# Altium footprint library Tiristors_Diodes.PcbLib: 14 footprints
Each footprint in its own frame and in the unit in brackets; x right, y up, seen from the top. Pads: shape width x height; smd on the part's side, far side on the other; paste and mask are expansions set on the pad; w line width, h text height; cw(c..) or ccw(c..) is an arc to the next point about the centre after c.
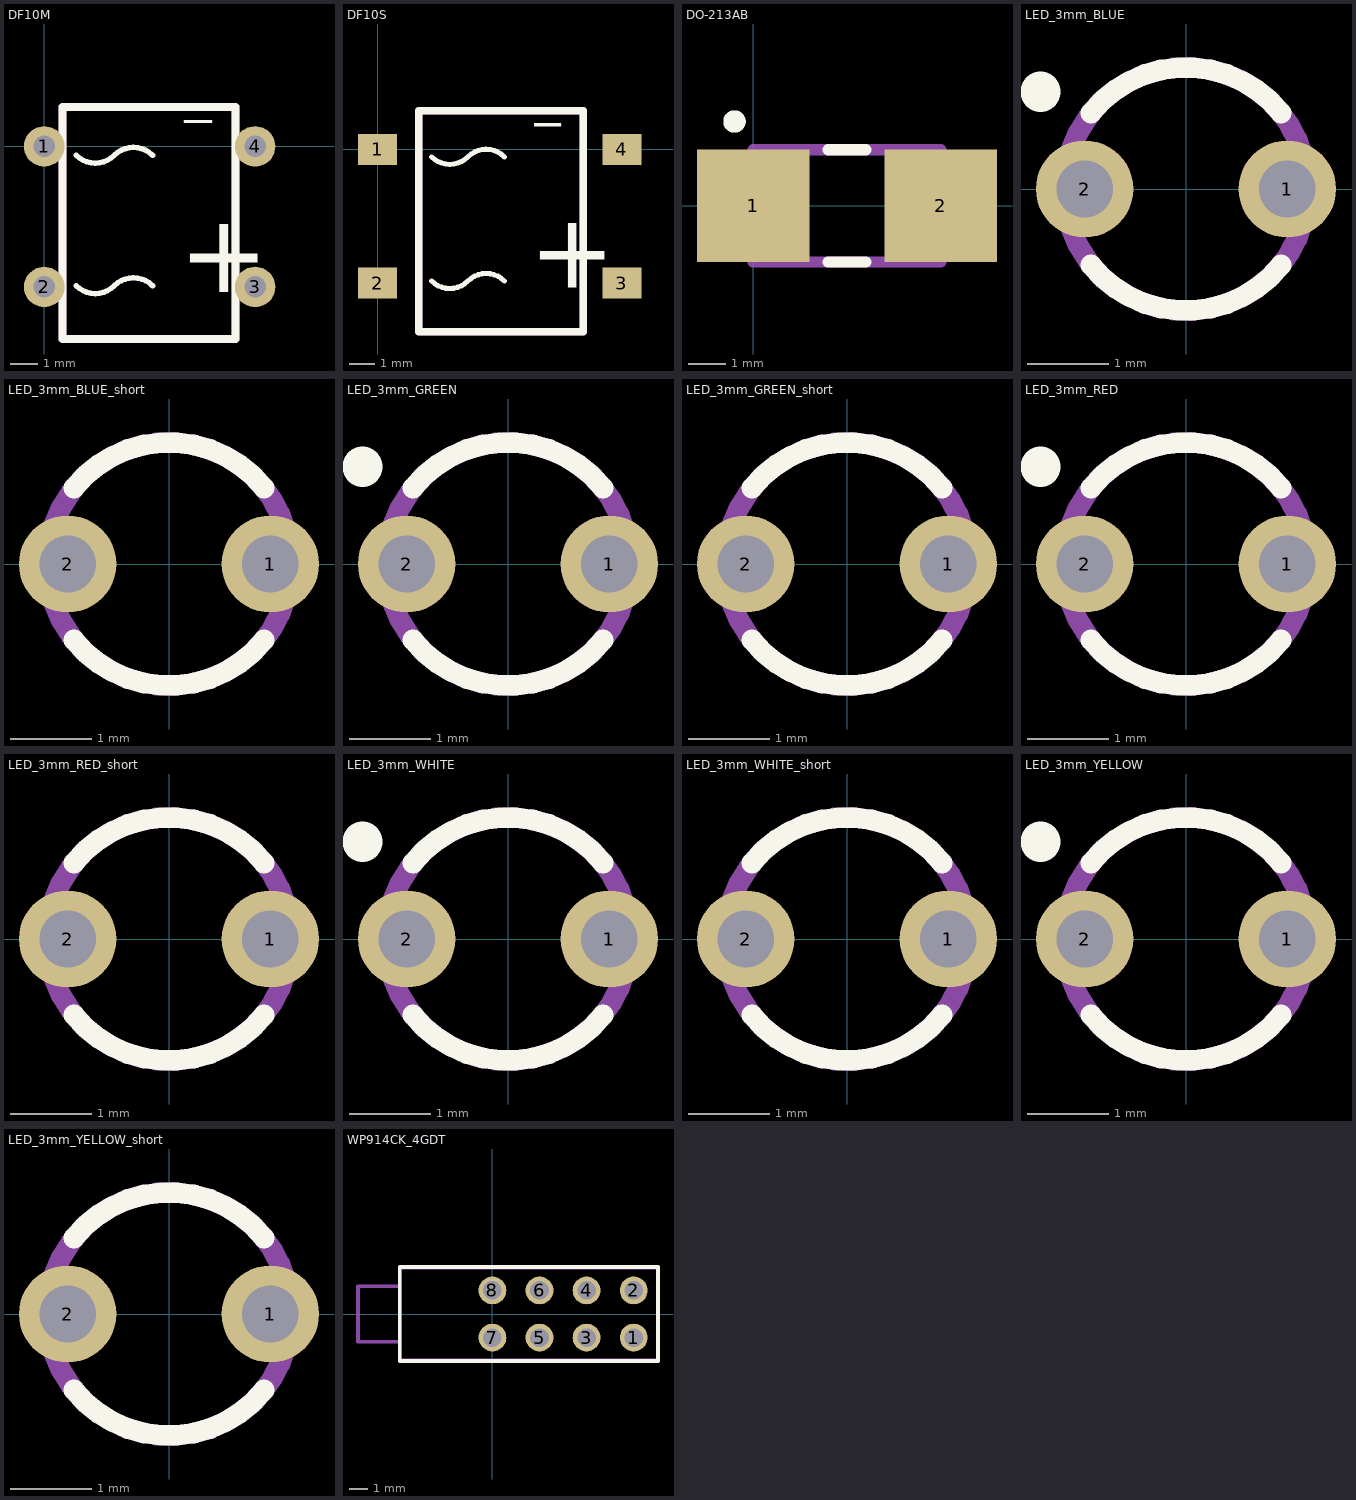
[diagram p0: the footprints below, top view; thin cyan lines are the x and y axes]

## DF10M [mm]
pads (4):
  round 1.5 hole 0.8 unplated: 1(0,0) 2(0,-5.2) 3(7.8,-5.2) 4(7.8,0)
Top Overlay:
  lines w0.2: 1.177,-5.153 ccw(c1.884,-4.446) 2.591,-5.153 cw(c3.298,-5.86) 4.005,-5.153 ; 1.177,-0.327 ccw(c1.884,0.38) 2.591,-0.327 cw(c3.298,-1.034) 4.005,-0.327
  lines w0.3: 0.677,-7.127 7.077,-7.127 7.077,1.463 0.677,1.463 0.677,-7.127
  text "+" at 4.977,-6.361 h5
  text "-" at 4.977,-1.027 h5
TopAssy:
  lines w0.3: 0.677,-7.127 7.077,-7.127 7.077,1.463 0.677,1.463 0.677,-7.127
3D body "User Library-Silicon Bridge Rectifiers DF10.step": height 3.65, standoff -3.16, extent -0.046,-6.689 7.874,1.511

## DF10S [mm]
pads (4):
  rect 1.52x1.2 smd: 1(0,0) 2(0,-5.2) 3(9.5,-5.2) 4(9.5,0)
Top Overlay:
  lines w0.2: 2.1,-5.116 ccw(c2.807,-4.409) 3.514,-5.116 cw(c4.221,-5.823) 4.928,-5.116 ; 2.1,-0.29 ccw(c2.807,0.417) 3.514,-0.29 cw(c4.221,-0.997) 4.928,-0.29
  lines w0.3: 1.6,-7.09 1.6,1.5 8,1.5 8,-7.09 1.6,-7.09
  text "-" at 5.9,-0.99 h5
  text "+" at 5.9,-6.324 h5
TopAssy:
  lines w0.3: 1.6,-7.09 1.6,1.5 8,1.5 8,-7.09 1.6,-7.09
3D body "User Library-DFXXS.step": height 3.65, standoff 0.08, extent -0.314,-6.863 9.986,1.647

## DO-213AB [mm]
pads (2):
  rect 3x3 smd: 1(0,0) 2(5,0)
Top Overlay:
  circle w0.3: c-0.5,2.25 r0.15
  lines w0.3: 2,-1.5 3,-1.5 ; 2,1.5 3,1.5
TopAssy:
  lines w0.3: 1,-1.5 1,1.5 ; 0,-1.5 5,-1.5 5,1.5 0,1.5 0,-1.5
3D body "User Library-Vishay - MELF DO-213AB.step": height 2.74, standoff 0.06, extent -0.2,-1.3 5,1.37

## LED_3mm_BLUE [mm]
pads (2):
  round 1.2 hole 0.7: 1(1.25,0) 2(-1.25,0)
Top Overlay:
  lines w0.254: -1.171,-0.937 ccw(c0,0) 1.171,-0.937 ; -1.171,0.937 cw(c0,0) 1.171,0.937
  lines w0.5: -1.8,1.2 -1.8,1.2
TopAssy:
  circle w0.254: c0,0 r1.5
3D body "everlight-3MM-LED-BLUE.step": height 7.64, standoff -4.93, extent -1.9,-1.9 1.526,1.9

## LED_3mm_BLUE_short [mm]
pads (2):
  round 1.2 hole 0.7: 1(1.25,0) 2(-1.25,0)
Top Overlay:
  lines w0.254: -1.171,-0.937 ccw(c0,0) 1.171,-0.937 ; -1.171,0.937 cw(c0,0) 1.171,0.937
TopAssy:
  circle w0.254: c0,0 r1.5
3D body "User Library-LED_d3-BLU.STEP": height 4.98, standoff -2.5, extent -1.644,-1.653 1.569,1.644

## LED_3mm_GREEN [mm]
pads (2):
  round 1.2 hole 0.7: 1(1.25,0) 2(-1.25,0)
Top Overlay:
  lines w0.254: -1.171,-0.937 ccw(c0,0) 1.171,-0.937 ; -1.171,0.937 cw(c0,0) 1.171,0.937
  lines w0.5: -1.8,1.2 -1.8,1.2
TopAssy:
  circle w0.254: c0,0 r1.5
3D body "everlight-3MM-LED-GREEN.step": height 7.64, standoff -4.93, extent -1.9,-1.9 1.526,1.9

## LED_3mm_GREEN_short [mm]
pads (2):
  round 1.2 hole 0.7: 1(1.25,0) 2(-1.25,0)
Top Overlay:
  lines w0.254: -1.171,-0.937 ccw(c0,0) 1.171,-0.937 ; -1.171,0.937 cw(c0,0) 1.171,0.937
TopAssy:
  circle w0.254: c0,0 r1.5
3D body "User Library-LED_d3-BLU.STEP": height 4.98, standoff -2.5, extent -1.644,-1.653 1.569,1.644

## LED_3mm_RED [mm]
pads (2):
  round 1.2 hole 0.7: 1(1.25,0) 2(-1.25,0)
Top Overlay:
  lines w0.254: -1.171,-0.937 ccw(c0,0) 1.171,-0.937 ; -1.171,0.937 cw(c0,0) 1.171,0.937
  lines w0.5: -1.8,1.2 -1.8,1.2
TopAssy:
  circle w0.254: c0,0 r1.5
3D body "everlight-3MM-LED-RED.step": height 7.64, standoff -4.93, extent -1.9,-1.9 1.526,1.9

## LED_3mm_RED_short [mm]
pads (2):
  round 1.2 hole 0.7: 1(1.25,0) 2(-1.25,0)
Top Overlay:
  lines w0.254: -1.171,-0.937 ccw(c0,0) 1.171,-0.937 ; -1.171,0.937 cw(c0,0) 1.171,0.937
TopAssy:
  circle w0.254: c0,0 r1.5
3D body "CircuitWorks-LED DIP 3MM.step": height 6.5, standoff -2, extent -1.6,-1.9 1.9,1.9

## LED_3mm_WHITE [mm]
pads (2):
  round 1.2 hole 0.7: 1(1.25,0) 2(-1.25,0)
Top Overlay:
  lines w0.254: -1.171,-0.937 ccw(c0,0) 1.171,-0.937 ; -1.171,0.937 cw(c0,0) 1.171,0.937
  lines w0.5: -1.8,1.2 -1.8,1.2
TopAssy:
  circle w0.254: c0,0 r1.5
3D body "everlight-3MM-LED-GREEN.step": height 7.64, standoff -4.93, extent -1.9,-1.9 1.526,1.9

## LED_3mm_WHITE_short [mm]
pads (2):
  round 1.2 hole 0.7: 1(1.25,0) 2(-1.25,0)
Top Overlay:
  lines w0.254: -1.171,-0.937 ccw(c0,0) 1.171,-0.937 ; -1.171,0.937 cw(c0,0) 1.171,0.937
TopAssy:
  circle w0.254: c0,0 r1.5
3D body "User Library-LED_d3-BLU.STEP": height 4.98, standoff -2.5, extent -1.644,-1.653 1.569,1.644

## LED_3mm_YELLOW [mm]
pads (2):
  round 1.2 hole 0.7: 1(1.25,0) 2(-1.25,0)
Top Overlay:
  lines w0.254: -1.171,-0.937 ccw(c0,0) 1.171,-0.937 ; -1.171,0.937 cw(c0,0) 1.171,0.937
  lines w0.5: -1.8,1.2 -1.8,1.2
TopAssy:
  circle w0.254: c0,0 r1.5
3D body "everlight-3MM-LED-YELLOW.step": height 7.64, standoff -4.93, extent -1.913,-1.9 1.513,1.9

## LED_3mm_YELLOW_short [mm]
pads (2):
  round 1.2 hole 0.7: 1(1.25,0) 2(-1.25,0)
Top Overlay:
  lines w0.254: -1.171,-0.937 ccw(c0,0) 1.171,-0.937 ; -1.171,0.937 cw(c0,0) 1.171,0.937
TopAssy:
  circle w0.254: c0,0 r1.5
3D body "CircuitWorks-LED DIP 3MM.step": height 6.5, standoff -2, extent -1.6,-1.9 1.9,1.9

## WP914CK_4GDT [mm]
pads (8):
  round 1.5 hole 1: 1(7.62,-1.27) 2(7.62,1.27) 3(5.08,-1.27) 4(5.08,1.27) 5(2.54,-1.27) 6(2.54,1.27) 7(0,-1.27) 8(0,1.27)
Top Overlay:
  lines w0.2: -5,-2.54 -5,2.54 8.928,2.54 8.928,-2.54 -5,-2.54
TopAssy:
  lines w0.2: -5,-1.5 -7.25,-1.5 -7.25,1.5 -5,1.5 ; -5,-2.5 -5,0 -5,2.5 8.93,2.5 8.93,-2.5 -5,-2.5
3D body "User Library-WP914CK_4GDT_LED_4x1_stack_2x3mm.STEP": height 12.09, standoff -2.9, extent -7.285,-2.535 8.92,2.545